# EAGLE library part CHRONODOT (library digits)
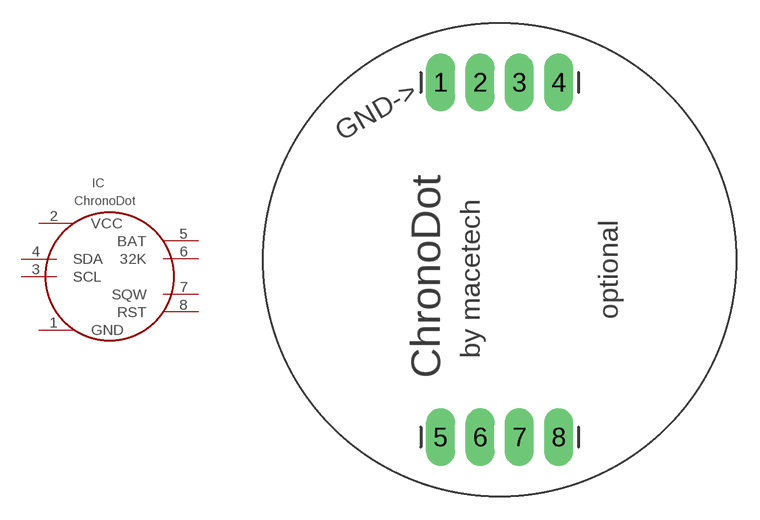
[diagram p5: symbol with the pads of CHRONODOT; footprint CHRONODOT]

Designator prefix IC

## CHRONODOT  [CHRONODOT]
1  GND
2  VCC
3  SCL
4  SDA
5  BAT
6  32K
7  SQW
8  RST

## Footprint CHRONODOT (pad centres in mm)
drill 1.118 pad 1.88 long: 1 -3.81,11.43; 2 -1.27,11.43; 3 1.27,11.43; 4 3.81,11.43; 5 -3.81,-11.43; 6 -1.27,-11.43; 7 1.27,-11.43; 8 3.81,-11.43